# Altium schematic symbol library my_parts.SchLib: 58 symbols
Pins are listed as number, name and electrical type; pins without a type are passive.

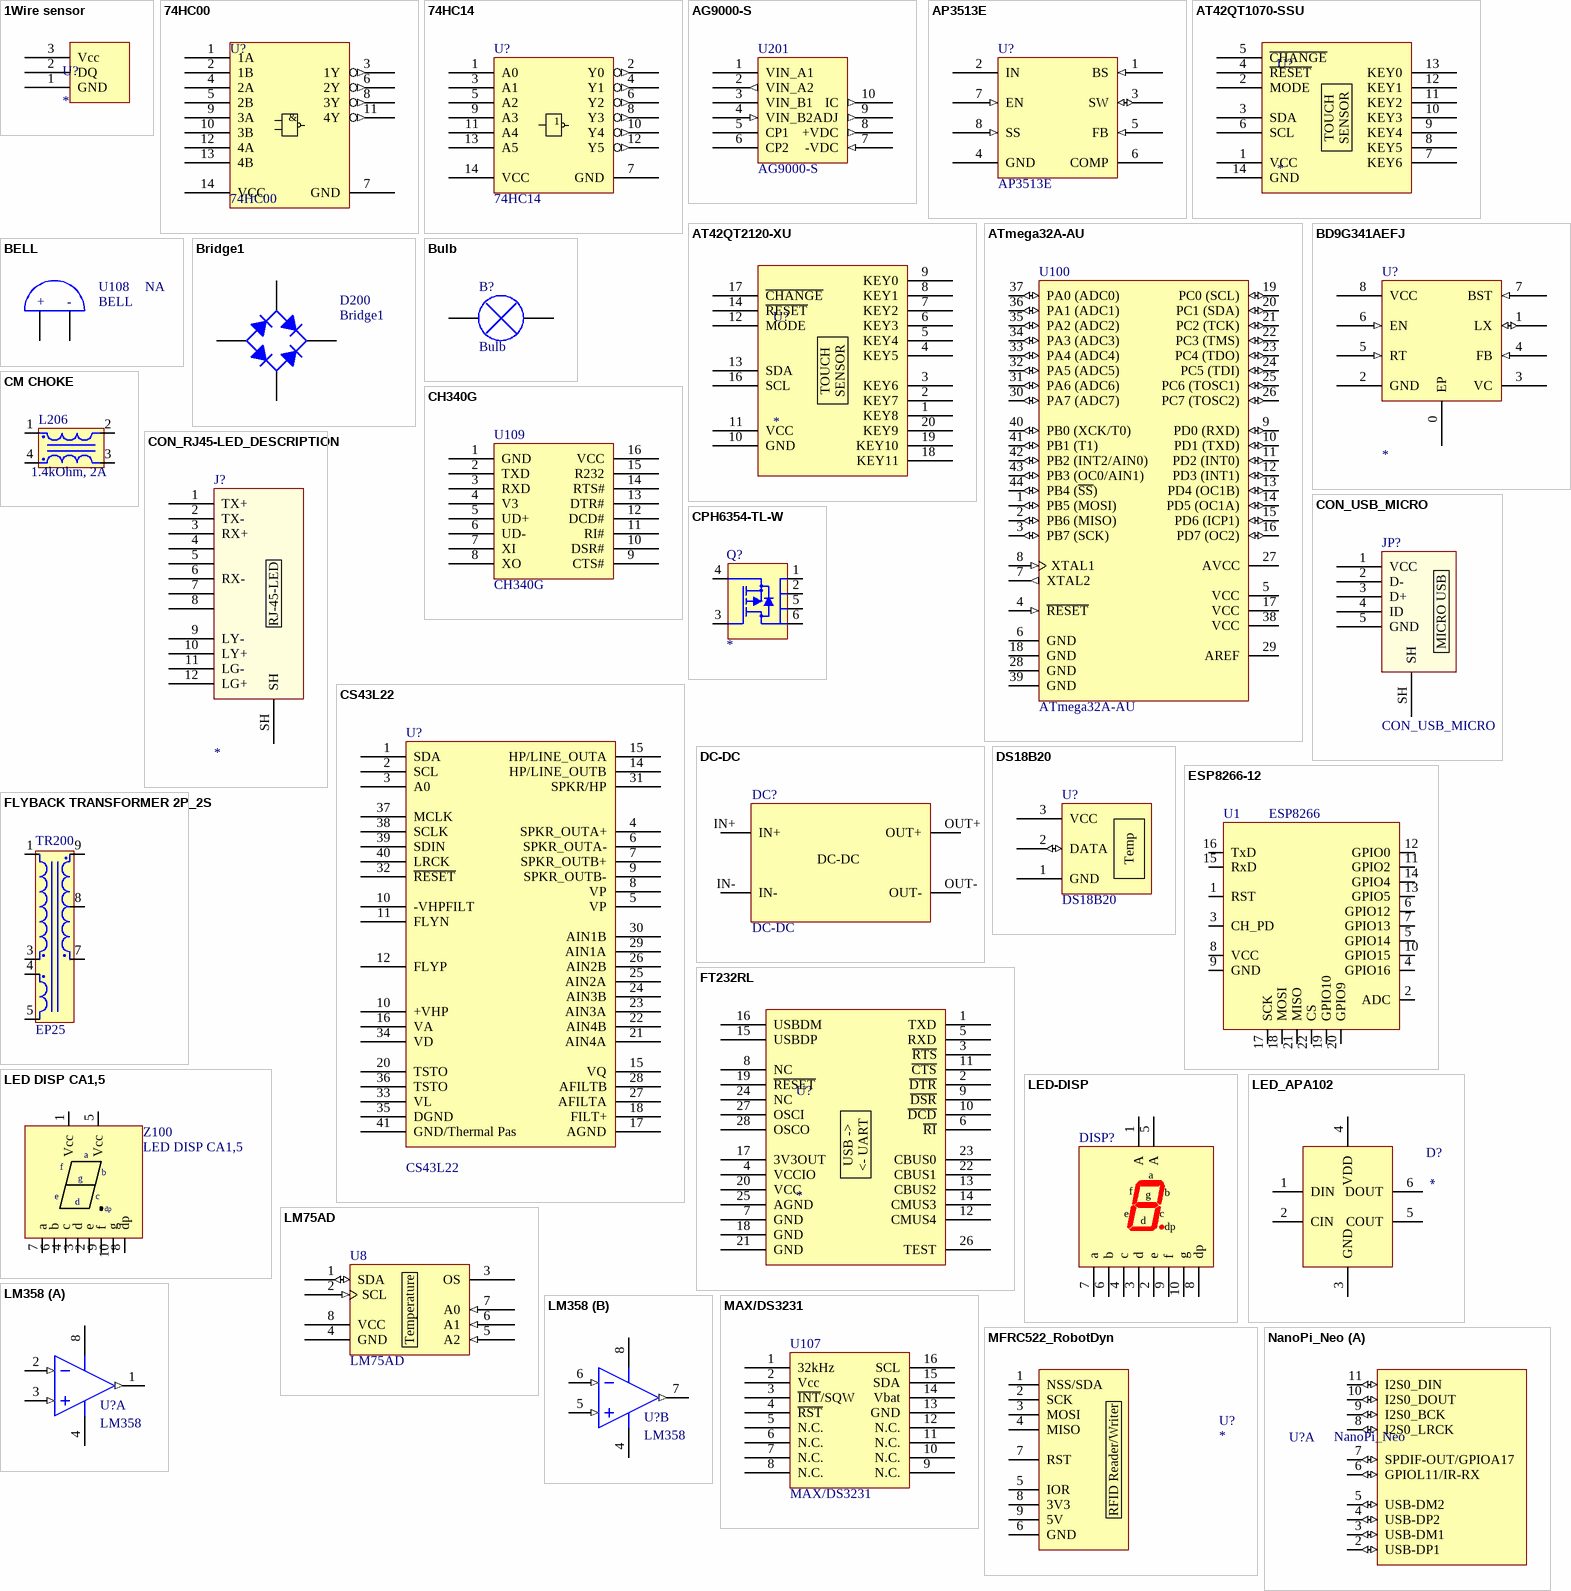
[diagram p0: symbols 1Wire sensor to NanoPi_Neo]

## 1Wire sensor
designator U?
footprint TO-92A (TO, Flat Index; 3 In-Line, Axial Leads; Body Dia. 4.5mm; Leads 0.51 x 0.48 mm (max))
footprint DHT
pins: 1 GND, 2 DQ, 3 Vcc

## 74HC00
designator U?
Quad 2-input NAND gate
footprint SO-14
pins: 1 1A (hiz), 2 1B (hiz), 3 1Y (out), 4 2A (hiz), 5 2B (hiz), 6 2Y (out), 7 GND, 8 3Y (out), 9 3A (hiz), 10 3B (hiz), 11 4Y (out), 12 4A (hiz), 13 4B (hiz), 14 VCC (power)
text: &

## 74HC14
designator U?
Hex inverter with Schmitt-trigger inputs
footprint SO-14
pins: 1 A0 (hiz), 2 Y0 (out), 3 A1 (hiz), 4 Y1 (out), 5 A2 (hiz), 6 Y2 (out), 7 GND, 8 Y3 (out), 9 A3 (hiz), 10 Y4 (out), 11 A4 (hiz), 12 Y5 (out), 13 A5 (hiz), 14 VCC (power)

## AG9000-S
designator U201
+-15KV ESD-PROTECTED, +5V RS-232 TRANSCEIVERS; Part Field 2: POE; Part Field 3: BOTTOM; Part Field 4: RUCNE
footprint AG9400-S
footprint AG9400-S HIDE
pins: 1 VIN_A1, 2 VIN_A2 (out), 3 VIN_B1, 4 VIN_B2 (in), 5 CP1, 6 CP2, 7 -VDC (in), 8 +VDC (out), 9 ADJ (out), 10 IC (out)

## AP3513E
designator U?
3A, 18V, 500KHz Synchronous Step-Down Converter
pins: 1 BS (in), 2 IN, 3 SW (io), 4 GND, 5 FB (in), 6 COMP, 7 EN (in), 8 SS (in)

## AT42QT1070-SSU
designator U?
Seven-channel QTouch® Touch Sensor IC
footprint SO-14 (Footprint not found)
pins: 1 VCC, 2 MODE, 3 SDA, 4 ~{RESET}, 5 ~{CHANGE}, 6 SCL, 7 KEY6, 8 KEY5, 9 KEY4, 10 KEY3, 11 KEY2, 12 KEY1, 13 KEY0, 14 GND
text: TOUCH; SENSOR

## AT42QT2120-XU
designator U?
Twelve-channel QTouch® Touch Sensor IC
footprint TSSOP-20 (Footprint not found)
pins: 1 KEY8, 2 KEY7, 3 KEY6, 4 KEY5, 5 KEY4, 6 KEY3, 7 KEY2, 8 KEY1, 9 KEY0, 10 GND, 11 VCC, 12 MODE, 13 SDA, 14 ~{RESET}, 16 SCL, 17 ~{CHANGE}, 18 KEY11, 19 KEY10, 20 KEY9
text: TOUCH; SENSOR

## ATmega32A-AU
designator U100
8-bit AVR Microcontroller, 32KB Flash, 1KB EEPROM, 2KB SRAM, 44-pin TQFP, Industrial Grade (-40°C to 85°C); Published: 1-Apr-2010; DatasheetVersion: revB, Jul-2009; PackageVersion: rev.B, Oct-2001; PackageReference: 44A; Publisher: Altium Limited; PackageDescription: 44-Pin Plastic Thin Profile Quad Flat Pack, 10 x 10 x 1.0 mm Body, 0.8 mm Pitch (TQFP); Supplier 1: Digi-Key; Supplier Part Number 1: ATMEGA32A-AU-ND; Supplier 2: Farnell; Supplier Part Number 2: 1704563; Supplier 3: Mouser; Supplier Part Number 3: 556-ATMEGA32A-AU; ComponentLink1Description: Manufacturer Link; ComponentLink1URL: http://www.atmel.com/products/avr/default.asp?; ComponentLink2Description: ATmega32A Datasheet; ComponentLink2URL: http://www.atmel.com/dyn/resources/prod_documents/doc8155.pdf; ComponentLink3Description: ATmega32A Summary; ComponentLink3URL: http://www.atmel.com/dyn/resources/prod_documents/8155S.pdf; ComponentLink4Description: Atmel.com Home; ComponentLink4URL: http://www.atmel.com
footprint 44A_N (Thin QFP, 44-Leads, Body 10x10mm, Pitch 0.8mm, IPC Medium Density)
footprint 44A_L (Thin QFP, 44-Leads, Body 10x10mm, Pitch 0.8mm, IPC High Density)
footprint 44A_M (Thin QFP, 44-Leads, Body 10x10mm, Pitch 0.8mm, IPC Low Density)
pins: 1 PB5 (MOSI) (io), 2 PB6 (MISO) (io), 3 PB7 (SCK) (io), 4 ~{RESET} (in), 5 VCC (power), 6 GND (power), 7 XTAL2 (out), 8 XTAL1 (in), 9 PD0 (RXD) (io), 10 PD1 (TXD) (io), 11 PD2 (INT0) (io), 12 PD3 (INT1) (io), 13 PD4 (OC1B) (io), 14 PD5 (OC1A) (io), 15 PD6 (ICP1) (io), 16 PD7 (OC2) (io), 17 VCC (power), 18 GND (power), 19 PC0 (SCL) (io), 20 PC1 (SDA) (io), 21 PC2 (TCK) (io), 22 PC3 (TMS) (io), 23 PC4 (TDO) (io), 24 PC5 (TDI) (io), 25 PC6 (TOSC1) (io), 26 PC7 (TOSC2) (io), 27 AVCC (power), 28 GND (power), 29 AREF (power), 30 PA7 (ADC7) (io), 31 PA6 (ADC6) (io), 32 PA5 (ADC5) (io), 33 PA4 (ADC4) (io), 34 PA3 (ADC3) (io), 35 PA2 (ADC2) (io), 36 PA1 (ADC1) (io), 37 PA0 (ADC0) (io), 38 VCC (power), 39 GND (power), 40 PB0 (XCK/T0) (io), 41 PB1 (T1) (io), 42 PB2 (INT2/AIN0) (io), 43 PB3 (OC0/AIN1) (io), 44 PB4 (~{SS}) (io)

## BD9G341AEFJ
designator U?
12V to 76V input voltage range 3A output current
footprint SO-8_EP
pins: 0 EP, 1 LX (io), 2 GND, 3 VC, 4 FB (in), 5 RT (in), 6 EN (in), 7 BST (in), 8 VCC

## BELL
designator U108  osazeni: NA
footprint KPE 242
pins: 1, 2
text: +; -

## Bridge1
designator D200
Full Wave Diode Bridge; Published: 8-Jun-2000; LatestRevisionDate: 29-May-2009; LatestRevisionNote: Sch pins A & K swapped.; DatasheetVersion: E2732B; PackageReference: D-38; Publisher: Altium Limited; PackageDescription: Bridge Rectifier; 4 Terminals; Body 9.4 x 9.4 mm (typ); Pitch 5.08 mm
footprint DB-1S; pin to pad 1>3 3>1
simulation model BRIDGE (Spice Subcircuit)
pins: 1 K, 2 C, 3 A, 4 C

## Bulb
designator B?
Note: Place a "letter" into the symbol to show the function of the meter or instrument; Published: 24-Mar-1999; LatestRevisionDate: 17-Jul-2002; LatestRevisionNote: Re-released for DXP Platform.; PackageReference: RAD-0.1; Publisher: Altium Limited; PackageDescription: Radial Cap, Thru-Hole; 2 Leads; 0.1 in Pin Spacing
footprint RAD-0.1 (Radial Cap, Thru-Hole; 2 Leads; 0.1 in Pin Spacing)
pins: 1, 2

## CH340G
designator U109
pins: 1 GND, 2 TXD, 3 RXD, 4 V3, 5 UD+, 6 UD-, 7 XI, 8 XO, 9 CTS#, 10 DSR#, 11 RI#, 12 DCD#, 13 DTR#, 14 RTS#, 15 R232, 16 VCC

## CM CHOKE
designator L206, comment 1.4kOhm, 2A
Part Field 1: 13; Part Field 2: 100; Part Field 3: MACH Kladno
footprint CM CHOKE PMEC 1/V
footprint DLW5BS
pins: 1, 2, 3, 4

## CON_RJ45-LED_DESCRIPTION
designator J?
footprint RJHSE-3081
pins: 1 TX+, 2 TX-, 3 RX+, 4, 5, 6 RX-, 7, 8, 9 LY-, 10 LY+, 11 LG-, 12 LG+, SH
text: RJ-45-LED

## CON_USB_MICRO
designator JP?
footprint USB micro B LLC (USB micro B vertical Molex, LLC)
pins: 1 VCC, 2 D-, 3 D+, 4 ID, 5 GND, SH
text: MICRO USB

## CPH6354-TL-W
designator Q?
ID: 38; Value: SQ3419EV; ABRA number: 94235; HelpURL: https://cz.mouser.com/ProductDetail/Vishay-Siliconix/SQ3419EV-T1_GE3?qs=sGAEpiMZZMshyDBzk1%2fWi5vIKI30lxcJXgi7ZfoBxxVf2tjdLkj6og%3d%3d; Technology: SMT
footprint SOT-23-6
pins: 1 D, 2 D, 3 G, 4 S, 5 D, 6 D

## CS43L22
designator U?
DAC with integrated Class D Speaker Driver
pins: 1 SDA (power), 2 SCL (power), 3 A0 (power), 4 SPKR_OUTA+ (power), 5 VP (power), 6 SPKR_OUTA- (power), 7 SPKR_OUTB+ (power), 8 VP (power), 9 SPKR_OUTB- (power), 10 -VHPFILT (power), 10 +VHP (power), 11 FLYN (power), 12 FLYP (power), 14 HP/LINE_OUTB (power), 15 HP/LINE_OUTA (power), 15 VQ (power), 16 VA (power), 17 AGND (power), 18 FILT+ (power), 20 TSTO (power), 21 AIN4A (power), 22 AIN4B (power), 23 AIN3A (power), 24 AIN3B (power), 25 AIN2A (power), 26 AIN2B (power), 27 AFILTA (power), 28 AFILTB (power), 29 AIN1A (power), 30 AIN1B (power), 31 SPKR/HP (power), 32 ~{RESET} (power), 33 VL (power), 34 VD (power), 35 DGND (power), 36 TSTO (power), 37 MCLK (power), 38 SCLK (power), 39 SDIN (power), 40 LRCK (power), 41 GND/Thermal Pas (power)

## DC-DC
designator DC?
footprint STEP-UP (MT3608)
pins: IN+, IN-, OUT+, OUT-

## DS18B20
designator U?
Temperature Sensor
footprint TO-92A (TO, Flat Index; 3 In-Line, Axial Leads; Body Dia. 4.5mm; Leads 0.51 x 0.48 mm (max))
pins: 1 GND, 2 DATA (io), 3 VCC (power)
text: Temp

## ESP8266-12
designator U1, comment ESP8266
footprint ESP8266-12 (esp-12)
pins: 1 RST, 2 ADC, 3 CH_PD, 4 GPIO16, 5 GPIO14, 6 GPIO12, 7 GPIO13, 8 VCC (power), 9 GND (power), 10 GPIO15, 11 GPIO2 (power), 12 GPIO0 (power), 13 GPIO5 (power), 14 GPIO4 (power), 15 RxD (power), 16 TxD (power), 17 SCK, 18 MOSI, 19 GPIO10, 20 GPIO9, 21 MISO, 22 CS

## FLYBACK TRANSFORMER 2P_2S
designator TR200, comment EP25
footprint EF25
pins: 1 Primary, 3 Primary Dot, 4 Bias Dot, 5 Bias, 7 Secondary, 8 Secondary 1/2, 9 Secondary dot

## FT232RL
designator U?
USB Interface IC USB to Serial UART Enhanced IC
footprint SSOP-28 (Footprint not found)
pins: 1 TXD, 2 ~{DTR}, 3 ~{RTS}, 4 VCCIO, 5 RXD, 6 ~{RI}, 7 GND, 8 NC, 9 ~{DSR}, 10 ~{DCD}, 11 ~{CTS}, 12 CMUS4, 13 CBUS2, 14 CMUS3, 15 USBDP, 16 USBDM, 17 3V3OUT, 18 GND, 19 ~{RESET}, 20 VCC, 21 GND, 22 CBUS1, 23 CBUS0, 24 NC, 25 AGND, 26 TEST, 27 OSCI, 28 OSCO
text: USB ->; <- UART

## LED DISP CA1,5
designator Z100
footprint LED DISP 38
pins: 1 Vcc (power), 2 e, 3 d, 4 c, 5 Vcc (power), 6 b, 7 a, 8 dp, 9 f, 10 g

## LED-DISP
designator DISP?
38mm SINGLE DIGIT  NUMERIC DISPLAY
footprint LED DISP 38
pins: 1 A "Anode", 2 e "Anode", 3 d "Anode", 4 c "Anode", 5 A "Anode", 6 b "Anode", 7 a "Anode", 8 dp "Anode", 9 f "Anode", 10 g "Anode"

## LED_APA102
designator D?
Intelligent control LED integrated light source
footprint APA102
pins: 1 DIN, 2 CIN, 3 GND, 4 VDD, 5 COUT, 6 DOUT

## LM75AD
designator U8
Digital temperature sensor and thermal watchdog
footprint SO-8
pins: 1 SDA (io), 2 SCL (in), 3 OS (oc), 4 GND, 5 A2 (in), 6 A1 (in), 7 A0 (in), 8 VCC (power)
text: Temperature

## LM358
designator U?
Low-Power, Dual-Operational Amplifiers
footprint SO-8
part A pins: 1 OUT1 (out), 2 IN1- (in), 3 IN1+ (in), 4 V- (power), 8 V+ (power)
part B pins: 4 V- (power), 5 IN2+ (in), 6 IN2- (in), 7 OUT2 (out), 8 V+ (power)

## MAX/DS3231
designator U107
MAX DS3231
footprint SOIC16 - DS3231 (SOIC, 16-Leads, Body 10.5x7.6mm (max), Pitch 1.27mm, IPC Medium Density)
pins: 1 32kHz, 2 Vcc, 3 ~{INT}/SQW, 4 ~{RST}, 5 N.C., 6 N.C., 7 N.C., 8 N.C., 9 N.C., 10 N.C., 11 N.C., 12 N.C., 13 GND, 14 Vbat, 15 SDA, 16 SCL

## MFRC522_RobotDyn
designator U?
Part Field 2: CORE; Part Field 3: BOTTOM; Part Field 4: AUTOMAT
footprint MFRC522_RobotDyn
pins: 1 NSS/SDA, 2 SCK, 3 MOSI, 4 MISO, 5 IOR, 6 GND, 7 RST, 8 3V3, 9 5V
text: RFID Reader/Writer

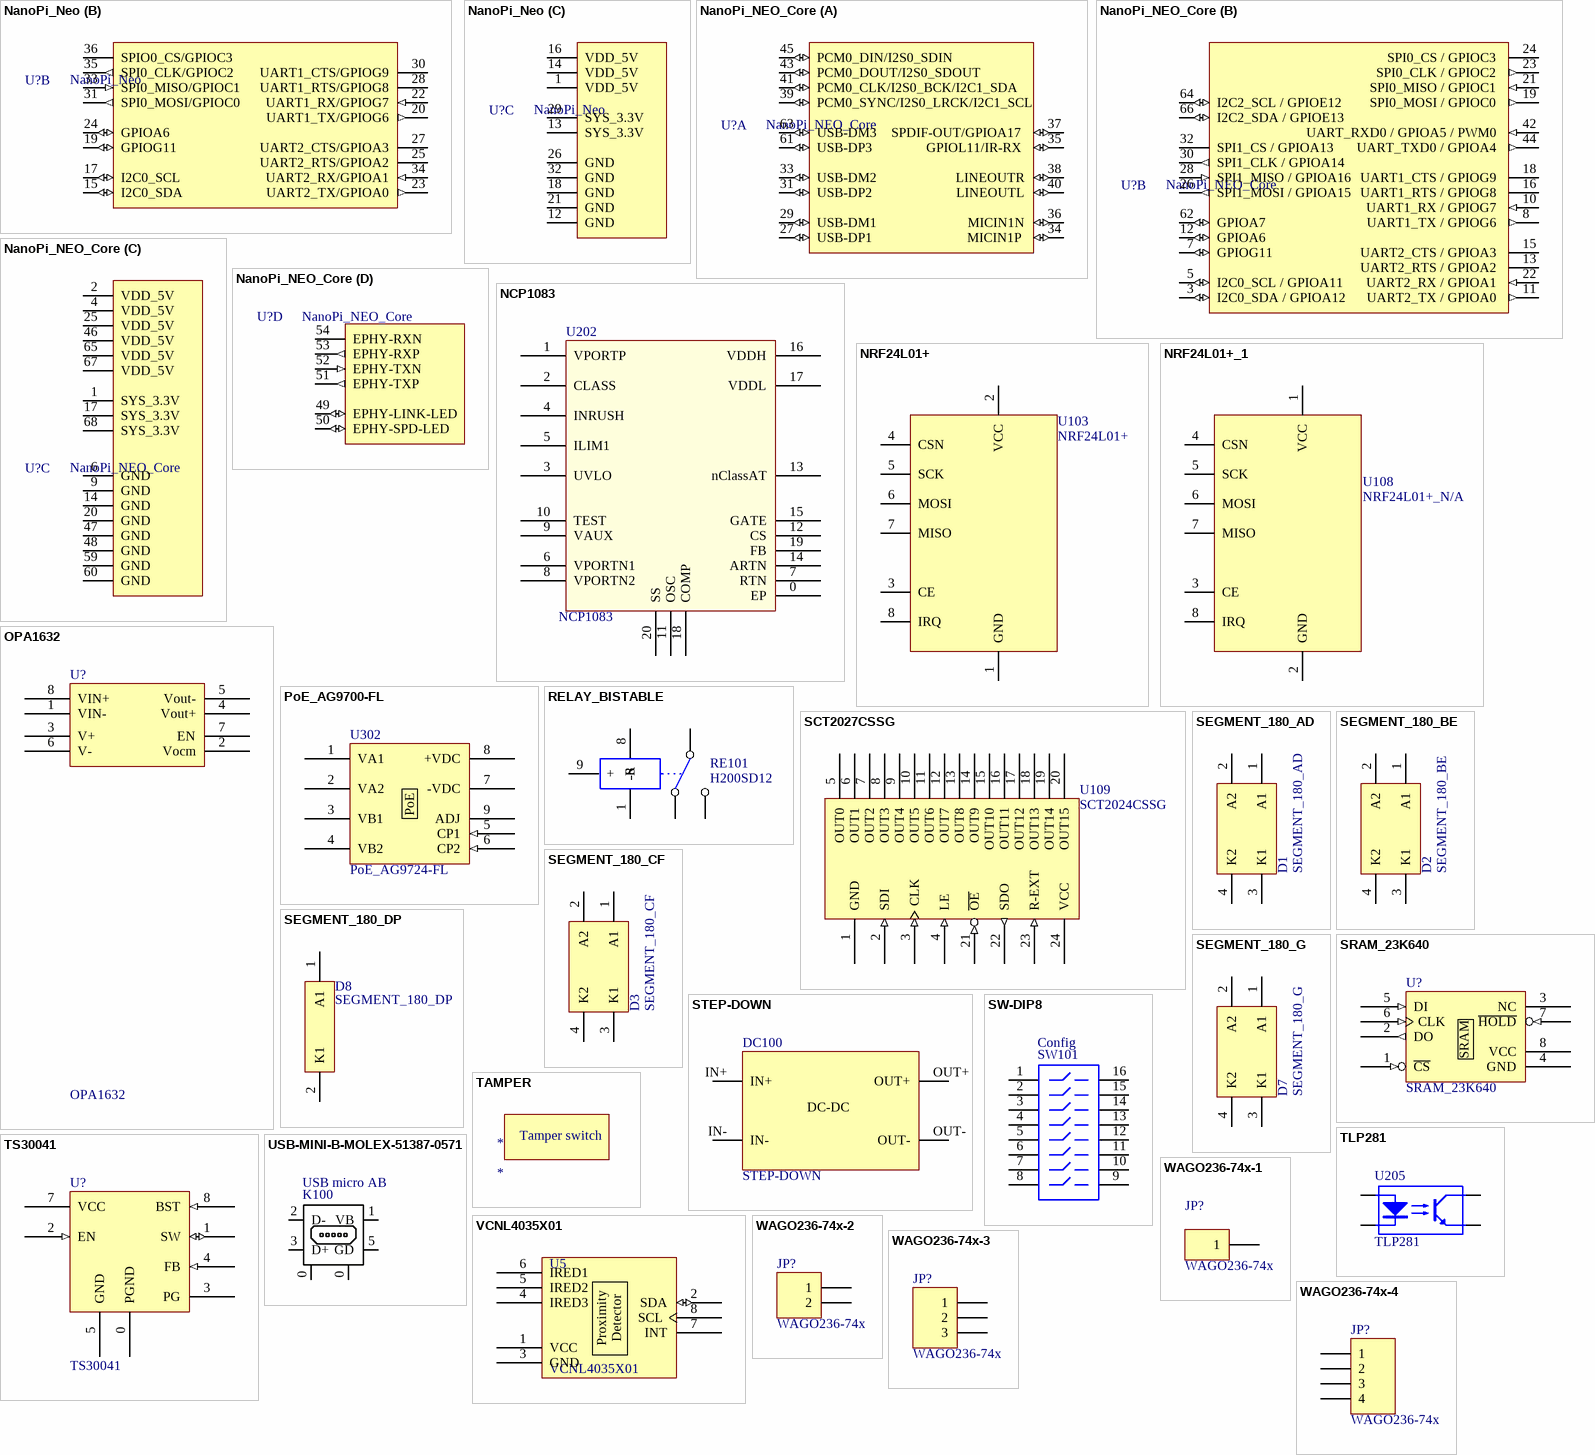
[diagram p1: symbols NanoPi_Neo to WAGO236-74x-4]

## NanoPi_Neo
designator U?
footprint NanoPi_Neo-module
part A pins: 2 USB-DP1 (io), 3 USB-DM1 (io), 4 USB-DP2 (io), 5 USB-DM2 (io), 6 GPIOL11/IR-RX (io), 7 SPDIF-OUT/GPIOA17  (io), 8 I2S0_LRCK (io), 9 I2S0_BCK (io), 10 I2S0_DOUT (io), 11 I2S0_DIN (io)
part B pins: 15 I2C0_SDA (io), 17 I2C0_SCL (io), 19 GPIOG11 (io), 20 UART1_TX/GPIOG6 (out), 22 UART1_RX/GPIOG7 (in), 23 UART2_TX/GPIOA0 (out), 24 GPIOA6 (io), 25 UART2_RTS/GPIOA2, 27 UART2_CTS/GPIOA3, 28 UART1_RTS/GPIOG8, 30 UART1_CTS/GPIOG9, 31 SPI0_MOSI/GPIOC0 (out), 33 SPI0_MISO/GPIOC1 (in), 34 UART2_RX/GPIOA1 (in), 35 SPI0_CLK/GPIOC2 (out), 36 SPIO0_CS/GPIOC3
part C pins: 1 VDD_5V (power), 12 GND (power), 13 SYS_3.3V (power), 14 VDD_5V (power), 16 VDD_5V (power), 18 GND (power), 21 GND (power), 26 GND (power), 29 SYS_3.3V (power), 32 GND (power)

## NanoPi_NEO_Core
designator U?
footprint NanoPi_NEO_Core
footprint NanoPi_NEO_Core_right
part A pins: 27 USB-DP1 (io), 29 USB-DM1 (io), 31 USB-DP2 (io), 33 USB-DM2 (io), 34 MICIN1P  (io), 35 GPIOL11/IR-RX  (io), 36 MICIN1N (io), 37 SPDIF-OUT/GPIOA17  (io), 38 LINEOUTR (io), 39 PCM0_SYNC/I2S0_LRCK/I2C1_SCL  (io), 40 LINEOUTL (io), 41 PCM0_CLK/I2S0_BCK/I2C1_SDA  (io), 43 PCM0_DOUT/I2S0_SDOUT  (io), 45 PCM0_DIN/I2S0_SDIN  (io), 61 USB-DP3 (io), 63 USB-DM3 (io)
part B pins: 3 I2C0_SDA / GPIOA12  (io), 5 I2C0_SCL / GPIOA11  (io), 7 GPIOG11 (io), 8 UART1_TX / GPIOG6  (out), 10 UART1_RX / GPIOG7  (in), 11 UART2_TX / GPIOA0  (out), 12 GPIOA6 (io), 13 UART2_RTS / GPIOA2 , 15 UART2_CTS / GPIOA3 , 16 UART1_RTS / GPIOG8 , 18 UART1_CTS / GPIOG9 , 19 SPI0_MOSI / GPIOC0  (out), 21 SPI0_MISO / GPIOC1  (in), 22 UART2_RX / GPIOA1  (in), 23 SPI0_CLK / GPIOC2  (out), 24 SPI0_CS / GPIOC3 , 26 SPI1_MOSI / GPIOA15  (out), 28 SPI1_MISO / GPIOA16  (in), 30 SPI1_CLK / GPIOA14  (out), 32 SPI1_CS / GPIOA13 , 42 UART_RXD0 / GPIOA5 / PWM0  (in), 44 UART_TXD0 / GPIOA4  (out), 62 GPIOA7 (io), 64 I2C2_SCL / GPIOE12  (io), 66 I2C2_SDA / GPIOE13  (io)
part C pins: 1 SYS_3.3V (power), 2 VDD_5V (power), 4 VDD_5V (power), 6 GND (power), 9 GND (power), 14 GND (power), 17 SYS_3.3V (power), 20 GND (power), 25 VDD_5V (power), 46 VDD_5V (power), 47 GND (power), 48 GND (power), 59 GND (power), 60 GND (power), 65 VDD_5V (power), 67 VDD_5V (power), 68 SYS_3.3V (power)
part D pins: 49 EPHY-LINK-LED  (io), 50 EPHY-SPD-LED  (io), 51 EPHY-TXP  (out), 52 EPHY-TXN  (in), 53 EPHY-RXP  (out), 54 EPHY-RXN 

## NCP1083
designator U202
footprint TSOP20-EP
pins: 0 EP, 1 VPORTP, 2 CLASS, 3 UVLO, 4 INRUSH, 5 ILIM1, 6 VPORTN1, 7 RTN, 8 VPORTN2, 9 VAUX, 10 TEST, 11 OSC, 12 CS, 13 nClassAT, 14 ARTN, 15 GATE, 16 VDDH, 17 VDDL, 18 COMP, 19 FB, 20 SS

## NRF24L01+
designator U103
NRF vyvodovy
footprint HEADER-2X4
pins: 1 GND, 2 VCC, 3 CE, 4 CSN, 5 SCK, 6 MOSI, 7 MISO, 8 IRQ

## NRF24L01+_1
designator U108, comment NRF24L01+_N/A
NRF SMD
footprint NRF24 SMD (NRF24 Mini 02)
pins: 1 VCC, 2 GND, 3 CE, 4 CSN, 5 SCK, 6 MOSI, 7 MISO, 8 IRQ

## OPA1632
designator U?
High-Performance, Fully-Differential Audio Operational Amplifier
footprint SO8 (Footprint not found)
pins: 1 VIN-, 2 Vocm (power), 3 V+ (power), 4 Vout+, 5 Vout-, 6 V- (power), 7 EN (power), 8 VIN+

## PoE_AG9700-FL
designator U302, comment PoE_AG9724-FL
Power-Over-Ethernet Module with bridges
footprint AG9400-S
pins: 1 VA1, 2 VA2, 3 VB1, 4 VB2, 5 CP1 (in), 6 CP2 (in), 7 -VDC, 8 +VDC, 9 ADJ, 10 IC hidden
text: PoE

## RELAY_BISTABLE
designator RE101, comment H200SD12
footprint V23092
footprint H200
footprint GL-K1-E (Bistable relay)
footprint JV-KT (relay)
pins: 1 -R, 2 NC, 3 COM, 4 NO, 8 -S, 9 +

## SCT2027CSSG
designator U109, comment SCT2024CSSG
16-BIT SFT REG OUT LATCH CONST CURRENT OUTPUTS+ERROR DETECTION; Part Field 2: CORE; Part Field 3: BOTTOM; Part Field 4: AUTOMAT
footprint TSSOP24
pins: 1 GND (power), 2 SDI (in), 3 CLK (in), 4 LE (in), 5 OUT0 (hiz), 6 OUT1 (hiz), 7 OUT2 (hiz), 8 OUT3 (hiz), 9 OUT4 (hiz), 10 OUT5 (hiz), 11 OUT6 (hiz), 12 OUT7 (hiz), 13 OUT8 (hiz), 14 OUT9 (hiz), 15 OUT10 (hiz), 16 OUT11 (hiz), 17 OUT12 (hiz), 18 OUT13 (hiz), 19 OUT14 (hiz), 20 OUT15 (hiz), 21 ~{OE} (in), 22 SDO (out), 23 R-EXT (in), 24 VCC (power)

## SEGMENT_180_AD
designator D1
footprint SEGMENT_180_AD
pins: 1 A1, 2 A2, 3 K1, 4 K2

## SEGMENT_180_BE
designator D2
footprint SEGMENT_180_BE
pins: 1 A1, 2 A2, 3 K1, 4 K2

## SEGMENT_180_CF
designator D3
footprint SEGMENT_180_CF
pins: 1 A1, 2 A2, 3 K1, 4 K2

## SEGMENT_180_DP
designator D8
footprint SEGMENT_180_DP
pins: 1 A1, 2 K1

## SEGMENT_180_G
designator D7
footprint SEGMENT_180_G
pins: 1 A1, 2 A2, 3 K1, 4 K2

## SRAM_23K640
designator U?
Serial SRAM SPI - 8pin
footprint SO-8
pins: 1 ~{CS} (in), 2 DO (out), 3 NC, 4 GND, 5 DI (in), 6 CLK (in), 7 ~{HOLD} (in), 8 VCC (power)
text: SRAM

## STEP-DOWN
designator DC100
footprint Step-Down
footprint STEP-DOWN TPS62160 (TPS62160 with via)
footprint STEP-DOWN TPS62160 SMD (TPS62160 with pad)
pins: IN+, IN-, OUT+, OUT-
text: DC-DC

## SW-DIP8
designator SW101, comment Config
footprint SW-DIP16
pins: 1, 2, 3, 4, 5, 6, 7, 8, 9, 10, 11, 12, 13, 14, 15, 16

## TAMPER
designator *
footprint TAMPER (Tamper switch holder)
text: Tamper switch

## TLP281
designator U205
Opto Isolator
simulation model TLP281 (SUBCKT)
footprint MINI-FLAT-4
pins: 1 LED Anode, 2 LED Cathode, 3 Emitter, 4 Collector

## TS30041
designator U?
High Efficiency 1A Synchonous Buck Converter, 1MHz
footprint SO-8_EP
pins: 0 PGND, 1 SW (io), 2 EN (in), 3 PG, 4 FB (in), 5 GND, 7 VCC, 8 BST (in)

## USB-MINI-B-MOLEX-51387-0571
designator K100, comment USB micro AB
MINI USB B DEVICE CONNECTOR MOLEX 51387-0571; Supplier 1: Digi-Key; Supplier Part Number 1: WM5462DKR-ND
footprint USB micro AB (USB micro AB vertical)
pins: 0, 0, 1 VB, 2 D-, 3 D+, 5 GD

## VCNL4035X01
designator U5
ID: xxx; Value: VCNL4035X01; Supplier 1: https://cz.mouser.com/ProductDetail/Vishay-Semiconductors/VCNL4035X01-GS08?qs=sGAEpiMZZMs3uAJYYmvlKyQTFKENZBh0mAw9lX9psj5vqeQE7ahS%252bw%3d%3d; Technology: SMT
footprint SON105P240X75-8N (SON, 8-Leads, Body 4,00x2,36mm, Pitch 1,05mm, IPC Medium Density)
pins: 1 VCC (power), 2 SDA (io), 3 GND, 4 IRED3 (oc), 5 IRED2 (oc), 6 IRED1 (oc), 7 INT (oc), 8 SCL
text: Proximity; Detector

## WAGO236-74x-1
designator JP?, comment WAGO236-74x
WAGO to DPS, RM 5mm, 16A
footprint WAGO_236-74X-1
pins: 1

## WAGO236-74x-2
designator JP?, comment WAGO236-74x
WAGO to DPS, RM 5mm, 16A
footprint WAGO_236-74X-2
pins: 1, 2

## WAGO236-74x-3
designator JP?, comment WAGO236-74x
WAGO to DPS, RM 5mm, 16A
footprint WAGO_236-74X-3
pins: 1, 2, 3

## WAGO236-74x-4
designator JP?, comment WAGO236-74x
WAGO to DPS, RM 5mm, 16A
footprint WAGO_236-74X-4
pins: 1, 2, 3, 4

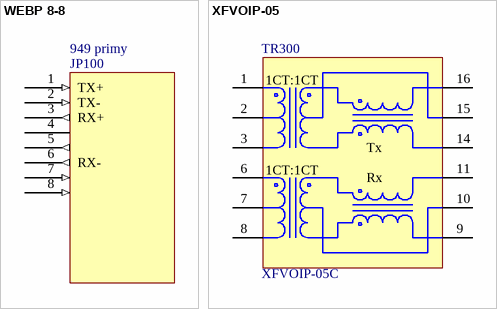
[diagram p2: symbols WEBP 8-8 to XFVOIP-05]

## WEBP 8-8
designator JP100, comment 949 primy
Part Field 1: 9,4; Text Field1: PIN 10 MUST BE LEFT UNCONNECTED.; Part Field 2: ETHERNET; Part Field 3: BOTTOM; Part Field 4: RUCNE
footprint ETH 949 primy
pins: 1 TX+ (in), 2 TX- (in), 3 RX+ (out), 4, 5 (out), 6 RX- (out), 7 (in), 8 (in)

## XFVOIP-05
designator TR300, comment XFVOIP-05C
LAN magnetics with filter
footprint XFVOIP-05
pins: 1 TD+, 2 TCT, 3 TD-, 4 NC hidden, 5 NC hidden, 6 RD+, 7 RCT, 8 RD-, 9 RX1-, 10 RXCT, 11 RX1+, 12 NC hidden, 13 NC hidden, 14 TX1-, 15 TXCT, 16 TX1+
text: 1CT:1CT; Tx; Rx